# Altium footprint library Connector, S04B-XASK-1.PcbLib: 1 footprints
Each footprint in its own frame and in the unit in brackets; x right, y up, seen from the top. Pads: shape width x height; smd on the part's side, far side on the other; paste and mask are expansions set on the pad; w line width, h text height; cw(c..) or ccw(c..) is an arc to the next point about the centre after c.
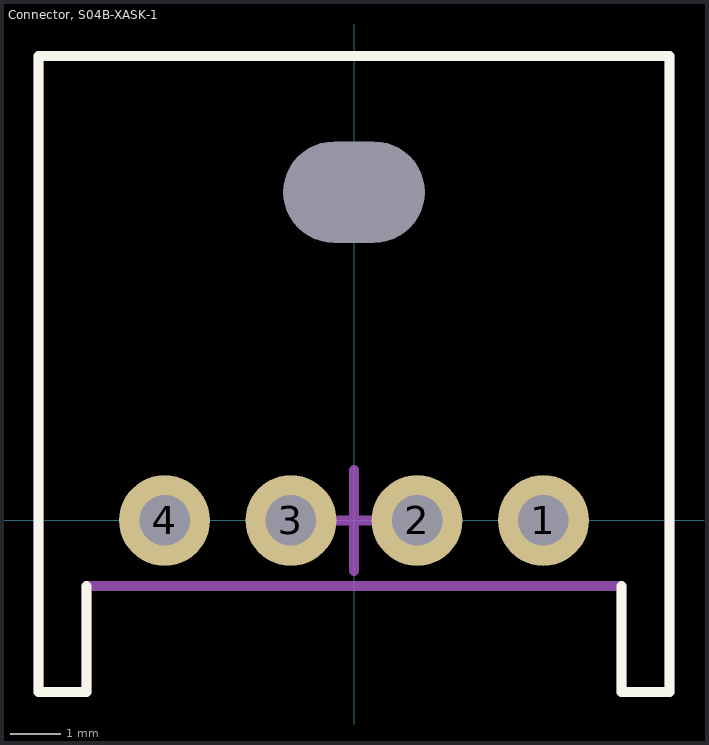
[diagram p0: the footprint, top view; thin cyan lines are the x and y axes]

## Connector, S04B-XASK-1 [mm] "Connector, S04B-XASK-1"
height 7.6
pads (5):
  round 1.8 hole 1 mask+0.05: 1(3.75,0) 2(1.25,0) 3(-1.25,0) 4(-3.75,0)
  round 0 hole 2 slot 2.8 at 0 deg unplated mask+0.05: 8-VIN(0,6.5)
Top Overlay:
  lines w0.2: -5.3,-1.3 -5.3,-3.4 -6.25,-3.4 -6.25,9.2 6.25,9.2 6.25,-3.4 5.3,-3.4 5.3,-1.3
Top Assembly:
  lines w0.2: -6.25,-3.4 -6.25,9.2 6.25,9.2 6.25,-3.4 5.3,-3.4 5.3,-1.3 -5.3,-1.3 -5.3,-3.4 -6.25,-3.4
Top Designator:
  text ".Designator" at -4,2.875 h2
Top Component Center:
  lines w0.2: -1,0 1,0 ; 0,-1 0,1
3D body "JST - XA -1x4 - Through Hole, Side Entry - S04B-XASK-1.step": height 7.6, standoff -3.5, extent -6.25,-3.4 6.25,9.2